# Altium footprint library MAXIM_Footprints.PcbLib: 8 footprints
Each footprint in its own frame and in the unit in brackets; x right, y up, seen from the top. Pads: shape width x height; smd on the part's side, far side on the other; paste and mask are expansions set on the pad; w line width, h text height; cw(c..) or ccw(c..) is an arc to the next point about the centre after c.
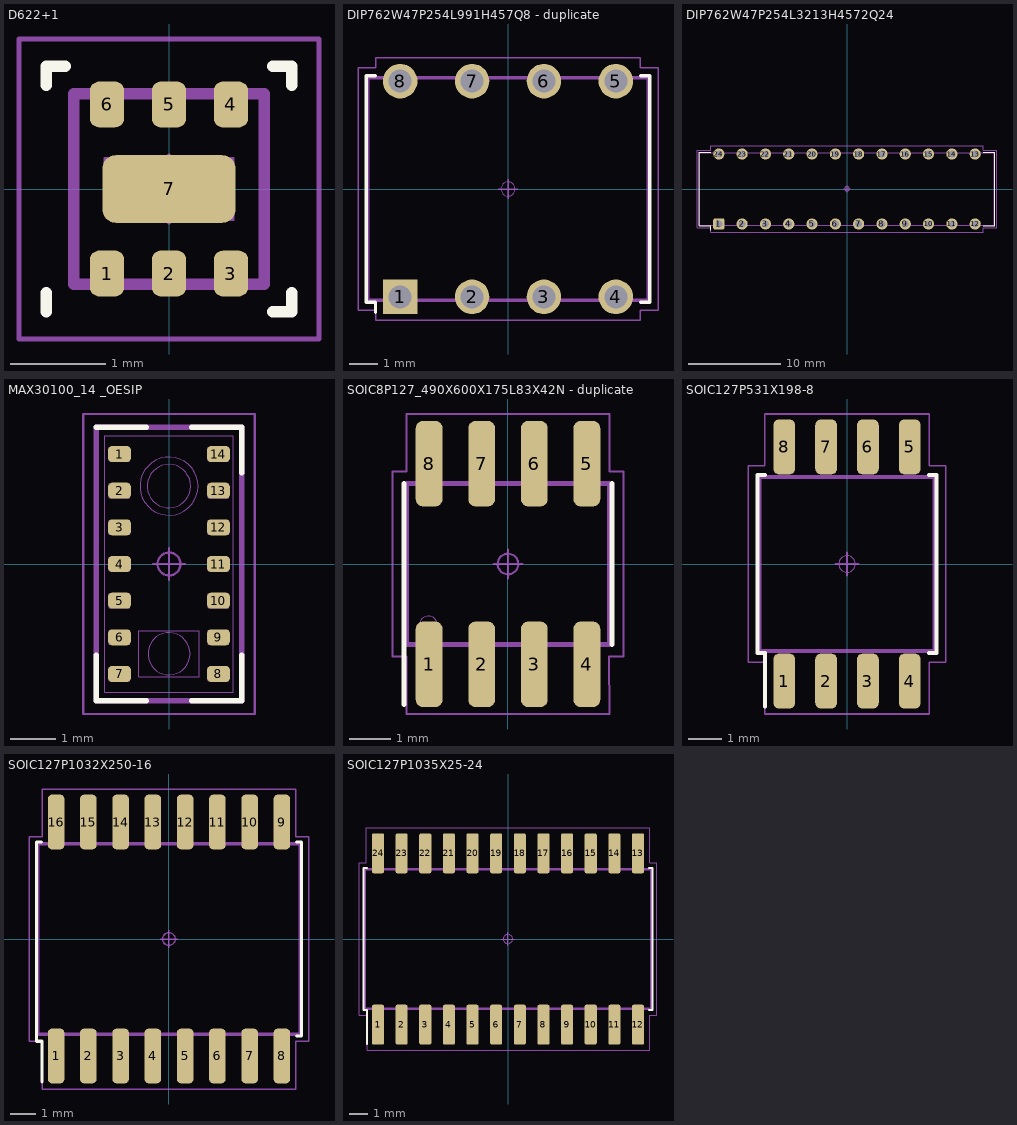
[diagram p0: the footprints below, top view; thin cyan lines are the x and y axes]

## D622+1 [mm]
height 0.6
pads (7):
  rrect51% 0.36x0.48 smd: 1(-0.65,-0.887) 2(0,-0.888) 3(0.65,-0.888) 4(0.65,0.887) 5(0,0.888) 6(-0.65,0.888)
  rrect39% 1.4x0.71 smd: 7(0,0)
Top Overlay:
  lines w0.12: -1.29,-1.29 -1.29,-1.09 ; -1.29,1.09 -1.29,1.29 -1.09,1.29 ; 1.09,-1.29 1.29,-1.29 1.29,-1.09 ; 1.09,1.29 1.29,1.29 1.29,1.09
Mechanical 11:
  lines w0.12: -1,-1 -1,1 1,1 1,-1 -1,-1
Mechanical 12:
  lines w0.025: -0.775,-1 -0.775,-0.825 cw(c-0.65,-0.825) -0.525,-0.825 -0.525,-1 ; -0.775,1 -0.775,0.825 ccw(c-0.65,0.825) -0.525,0.825 -0.525,1 ; -0.125,-1 -0.125,-0.825 cw(c0,-0.825) 0.125,-0.825 0.125,-1 ; -0.125,1 -0.125,0.825 ccw(c0,0.825) 0.125,0.825 0.125,1 ; 0.525,-1 0.525,-0.825 cw(c0.65,-0.825) 0.775,-0.825 0.775,-1 ; 0.525,1 0.525,0.825 ccw(c0.65,0.825) 0.775,0.825 0.775,1 ; -1,-1 1,-1 1,1 -1,1 -1,-1 ; -0.675,-0.125 -0.475,-0.325 0.675,-0.325 0.675,0.325 -0.675,0.325 -0.675,-0.1 -0.675,-0.125 ; 0.675,-0.1 0.675,-0.1
Mechanical 15:
  circle w0.05: c0,0 r0.25
  lines w0.05: -0.35,0 0.35,0 ; 0,-0.35 0,0.35 ; -1.575,-1.575 -1.575,1.575 1.575,1.575 1.575,-1.575 -1.575,-1.575
Mechanical 16:
  text ".Designator" at 0,0 h1.2
3D body "User Library-TDFN-6-OPTO.step": height 0.65, standoff 0, extent -1.01,-1.05 1.01,1.05

## DIP762W47P254L991H457Q8 - duplicate [mm] "DIP, 7.62 mm lead span, 2.54 mm pitch; 8 pin, 9.91 mm L X 7.87 mm W X 4.572 mm H body"
height 4.572
pads (8):
  rect 1.22x1.22 hole 0.81: 1(-3.81,-3.81)
  round 1.22 hole 0.81: 2(-1.27,-3.81) 3(1.27,-3.81) 4(3.81,-3.81) 5(3.81,3.81) 6(1.27,3.81) 7(-1.27,3.81) 8(-3.81,3.81)
Top Overlay:
  lines w0.12: -4.68,-4.36 -4.68,-3.995 -5.015,-3.995 -5.015,3.995 -4.68,3.995 ; 4.68,-3.995 5.015,-3.995 5.015,3.995 4.68,3.995
Mechanical 11:
  lines w0.12: -4.955,-3.935 4.955,-3.935 4.955,3.935 -4.955,3.935 -4.955,-3.935
Mechanical 12:
  lines w0.025: -4.955,-3.935 4.955,-3.935 4.955,3.935 -4.955,3.935 -4.955,-3.935
Mechanical 15:
  circle w0.025: c0,0 r0.25
  lines w0.05: -0.35,0 0.35,0 ; 0,-0.35 0,0.35 ; -5.3,-4.28 -5.3,4.28 -4.68,4.28 -4.68,4.645 4.68,4.645 4.68,4.28 5.3,4.28 5.3,-4.28 4.68,-4.28 4.68,-4.645 -4.68,-4.645 -4.68,-4.28 -5.3,-4.28
Mechanical 16:
  text "'.Designator'" at 0,0 h1.2
3D body "DIP762W47P254L991H457Q8.STEP": height 4.57, standoff 0.38, extent -4.955,-3.935 4.955,3.935

## DIP762W47P254L3213H4572Q24 [mm] "IPC-7251C PDIP24 for MAX7219"
height 4.572
pads (24):
  rrect30% 1.22x1.22 hole 0.762: 1(-13.97,-3.81)
  round 1.22 hole 0.762: 2(-11.43,-3.81) 3(-8.89,-3.81) 4(-6.35,-3.81) 5(-3.81,-3.81) 6(-1.27,-3.81) 7(1.27,-3.81) 8(3.81,-3.81) 9(6.35,-3.81) 10(8.89,-3.81) 11(11.43,-3.81) 12(13.97,-3.81) 13(13.97,3.81) 14(11.43,3.81) 15(8.89,3.81) 16(6.35,3.81) 17(3.81,3.81) 18(1.27,3.81) 19(-1.27,3.81) 20(-3.81,3.81) 21(-6.35,3.81) 22(-8.89,3.81) 23(-11.43,3.81) 24(-13.97,3.81)
Top Overlay:
  lines w0.12: -14.831,-4.471 -14.831,-3.995 -16.125,-3.995 -16.125,3.995 -14.831,3.995 ; 14.831,-3.995 16.125,-3.995 16.125,3.995 14.831,3.995
Mechanical 11:
  lines w0.12: -16.065,-3.935 -16.065,3.935 16.065,3.935 16.065,-3.935 -16.065,-3.935
Mechanical 12:
  lines w0.025: -16.065,-3.935 16.065,-3.935 16.065,3.935 -16.065,3.935 -16.065,-3.935
Mechanical 15:
  circle w0.05: c0,0.025 r0.25
  lines w0.05: -0.35,0.025 0.35,0.025 ; 0,-0.35 0,0.35 ; -16.35,-4.22 -14.856,-4.22 -14.856,-4.696 14.856,-4.696 14.856,-4.22 16.35,-4.22 16.35,4.22 14.856,4.22 14.856,4.696 -14.856,4.696 -14.856,4.22 -16.35,4.22 -16.35,-4.22
Mechanical 16:
  text "'.Designator'" at 0,0.025 h1.2
3D body "DIP794W47P254L3213H457Q24.STEP": height 4.57, standoff 0.38, extent -16.065,-3.91 16.065,3.96

## MAX30100_14 _OESIP [mm] "F142D5+2"
height 0.9
pads (14):
  rrect53% 0.5x0.35 smd: 1(-1.08,2.4) 2(-1.08,1.6) 3(-1.08,0.8) 4(-1.08,0) 5(-1.08,-0.8) 6(-1.08,-1.6) 7(-1.08,-2.4) 8(1.08,-2.4) 9(1.08,-1.6) 10(1.08,-0.8) 11(1.08,0) 12(1.08,0.8) 13(1.08,1.6) 14(1.08,2.4)
Top Overlay:
  lines w0.12: -1.59,-1.99 -1.59,-2.99 -0.5,-2.99 ; -1.59,2.99 -0.5,2.99 ; 0.5,-2.99 1.59,-2.99 1.59,-1.99 ; 0.5,2.99 1.59,2.99 1.59,1.99
Mechanical 11:
  circle w0.05: c0,0 r0.25
  lines w0.05: -0.35,0 0.35,0 ; 0,-0.35 0,0.35
  lines w0.12: -1.59,-2.99 -1.59,2.99 1.59,2.99 1.59,-2.99 -1.59,-2.99
Mechanical 12:
  circle w0.025: c0,1.7 r0.475
  circle w0.025: c0,1.7 r0.635
  circle w0.025: c0,-1.96 r0.46
  lines w0.025: -1.305,-2.252 -1.305,-2.55 -0.855,-2.55 -0.855,-2.25 -1.305,-2.25 ; -1.305,-1.452 -1.305,-1.75 -0.855,-1.75 -0.855,-1.45 -1.305,-1.45 ; -1.305,-0.653 -1.305,-0.95 -0.855,-0.95 -0.855,-0.65 -1.305,-0.65 ; -1.305,0.148 -1.305,-0.15 -0.855,-0.15 -0.855,0.15 -1.305,0.15 ; -1.305,0.948 -1.305,0.65 -0.855,0.65 -0.855,0.95 -1.305,0.95 ; -1.305,1.747 -1.305,1.45 -0.855,1.45 -0.855,1.75 -1.305,1.75 ; -1.305,2.548 -1.305,2.25 -0.855,2.25 -0.855,2.55 -1.305,2.55 ; 1.305,-2.55 0.855,-2.55 0.855,-2.25 1.305,-2.25 1.305,-2.547 ; 1.305,-1.75 0.855,-1.75 0.855,-1.45 1.305,-1.45 1.305,-1.747 ; 1.305,-0.95 0.855,-0.95 0.855,-0.65 1.305,-0.65 1.305,-0.947 ; 1.305,-0.15 0.855,-0.15 0.855,0.15 1.305,0.15 1.305,-0.148 ; 1.305,0.65 0.855,0.65 0.855,0.95 1.305,0.95 1.305,0.653 ; 1.305,1.45 0.855,1.45 0.855,1.75 1.305,1.75 1.305,1.453 ; 1.305,2.25 0.855,2.25 0.855,2.55 1.305,2.55 1.305,2.252 ; -1.4,-2.8 -1.4,2.8 1.4,2.8 1.4,-2.8 -1.4,-2.8 ; -0.66,-2.46 -0.66,-1.46 0.66,-1.46 0.66,-2.46 -0.66,-2.46
Mechanical 15:
  lines w0.05: -1.875,-3.275 -1.875,3.275 1.875,3.275 1.875,-3.275 -1.875,-3.275
Mechanical 16:
  text ".Designator" at 0,0 h1.2

## SOIC8P127_490X600X175L83X42N - duplicate [mm] "Small Outline IC (SOIC), 1.27 mm pitch; 8 pin, 4.90 mm L X 3.90 mm W X 1.75 mm H body"
height 1.75
pads (8):
  rrect53% 0.65x2.07 smd: 1(-1.905,-2.425) 2(-0.635,-2.425) 3(0.635,-2.425) 4(1.905,-2.425) 5(1.905,2.425) 6(0.635,2.425) 7(-0.635,2.425) 8(-1.905,2.425)
Top Overlay:
  lines w0.12: -2.51,-3.4 -2.51,1.95 ; 2.51,-1.95 2.51,1.95
Mechanical 11:
  lines w0.12: -2.45,-1.95 -2.45,1.95 2.45,1.95 2.45,-1.95 -2.45,-1.95
Mechanical 12:
  circle w0.025: c-1.925,-1.475 r0.215
  lines w0.025: -2.45,-1.95 2.45,-1.95 2.45,1.95 -2.45,1.95 -2.45,-1.95 ; -2.115,-3 -1.695,-3 -1.695,-2.16 -2.115,-2.16 -2.115,-3 ; -2.115,2.16 -2.115,3 -1.695,3 -1.695,2.16 -2.115,2.16 ; -0.845,-3 -0.425,-3 -0.425,-2.16 -0.845,-2.16 -0.845,-3 ; -0.845,2.16 -0.845,3 -0.425,3 -0.425,2.16 -0.845,2.16 ; 0.425,-3 0.845,-3 0.845,-2.16 0.425,-2.16 0.425,-3 ; 0.425,2.16 0.425,3 0.845,3 0.845,2.16 0.425,2.16 ; 1.695,-3 2.115,-3 2.115,-2.16 1.695,-2.16 1.695,-3 ; 1.695,2.16 1.695,3 2.115,3 2.115,2.16 1.695,2.16
Mechanical 15:
  lines w0.05: -0.35,0 0.35,0 ; 0,-0.35 0,0.35 ; 0.25,-0.01 cw(c0,0) 0.25,0 ; -2.795,-2.235 -2.455,-2.235 -2.455,-3.625 2.455,-3.625 2.445,-2.235 2.795,-2.235 2.795,2.235 2.455,2.235 2.455,3.625 -2.455,3.625 -2.455,2.235 -2.795,2.235 -2.795,-2.235
Mechanical 16:
  text ".Designator" at 0,0 h1.2
3D body "SOIC8P127_490X600X175L83X42.STEP": height 1.75, standoff 0, extent -2.45,-3 2.45,3

## SOIC127P531X198-8 [mm] "IPC-7351C Small Outline IC (SOIC), 1.27 mm pitch; 8 pin, 5.31 mm L X 5.285 mm W X 2.13 mm H body"
height 1.98
pads (8):
  rrect52% 0.66x1.67 smd: 1(-1.905,-3.555) 2(-0.635,-3.555) 3(0.635,-3.555) 4(1.905,-3.555) 5(1.905,3.556) 6(0.635,3.556) 7(-0.635,3.556) 8(-1.905,3.556)
Top Overlay:
  lines w0.12: -2.495,-4.33 -2.495,-2.702 -2.715,-2.702 -2.715,2.702 -2.495,2.702 ; 2.495,-2.702 2.715,-2.702 2.715,2.702 2.495,2.702
Mechanical 11:
  lines w0.12: -2.655,-2.642 -2.655,2.643 2.655,2.643 2.655,-2.642 -2.655,-2.642
Mechanical 12:
  lines w0.025: -2.655,-2.642 2.655,-2.642 2.655,2.643 -2.655,2.643 -2.655,-2.642 ; -2.115,-3.934 -1.695,-3.934 -1.695,-3.315 -2.115,-3.315 -2.115,-3.935 ; -2.115,3.315 -1.695,3.315 -1.695,3.935 -2.115,3.935 -2.115,3.315 ; -0.845,-3.934 -0.425,-3.934 -0.425,-3.315 -0.845,-3.315 -0.845,-3.934 ; -0.845,3.315 -0.425,3.315 -0.425,3.935 -0.845,3.935 -0.845,3.315 ; 0.425,-3.934 0.845,-3.934 0.845,-3.315 0.425,-3.315 0.425,-3.934 ; 0.425,3.315 0.845,3.315 0.845,3.935 0.425,3.935 0.425,3.315 ; 1.695,-3.934 2.115,-3.934 2.115,-3.315 1.695,-3.315 1.695,-3.934 ; 1.695,3.315 2.115,3.315 2.115,3.935 1.695,3.935 1.695,3.315
Mechanical 15:
  circle w0.025: c0,0 r0.25
  lines w0.05: -0.35,0 0.35,0 ; 0,-0.35 0,0.35 ; -3,-2.987 -2.495,-2.987 -2.495,-4.555 2.495,-4.555 2.495,-2.987 3,-2.987 3,2.987 2.495,2.987 2.495,4.555 -2.495,4.555 -2.495,2.987 -3,2.987 -3,-2.987
Mechanical 16:
  text "'.Designator'" at 0,0 h1.2
3D body "SOIC8P127_531X787X213L62X42.STEP": height 2.13, standoff 0, extent -2.655,-3.935 2.655,3.935

## SOIC127P1032X250-16 [mm] "IPC-7351C compliant Small Outline IC (SOIC), 1.27 mm pitch; 16 pin, 10.30 mm L X 7.50 mm W X 2.65 mm H body"
height 2.5
pads (16):
  rrect49% 0.65x2.15 smd: 1(-4.445,-4.605) 2(-3.175,-4.605) 3(-1.905,-4.605) 4(-0.635,-4.605) 5(0.635,-4.605) 6(1.905,-4.605) 7(3.175,-4.605) 8(4.445,-4.605) 9(4.445,4.605) 10(3.175,4.605) 11(1.905,4.605) 12(0.635,4.605) 13(-0.635,4.605) 14(-1.905,4.605) 15(-3.175,4.605) 16(-4.445,4.605)
Top Overlay:
  lines w0.12: -5.03,3.81 -5.21,3.81 -5.21,-4.025 -5.005,-4.025 -4.995,-4.035 -4.995,-5.62 ; 5.03,-3.81 5.21,-3.81 5.21,3.81 5.03,3.81
Mechanical 11:
  lines w0.12: -5.15,-3.75 5.15,-3.75 5.15,3.75 -5.15,3.75 -5.15,-3.75
Mechanical 12:
  lines w0.025: -5.15,-3.75 5.15,-3.75 5.15,3.75 -5.15,3.75 -5.15,-3.75 ; -4.655,-5.162 -4.655,-4.327 -4.235,-4.327 -4.235,-5.162 -4.655,-5.162 ; -4.655,4.327 -4.655,5.162 -4.235,5.162 -4.235,4.327 -4.655,4.327 ; -3.385,-5.162 -3.385,-4.327 -2.965,-4.327 -2.965,-5.162 -3.385,-5.162 ; -3.385,4.327 -3.385,5.162 -2.965,5.162 -2.965,4.327 -3.385,4.327 ; -2.115,-5.162 -2.115,-4.327 -1.695,-4.327 -1.695,-5.162 -2.115,-5.162 ; -2.115,4.327 -2.115,5.162 -1.695,5.162 -1.695,4.327 -2.115,4.327 ; -0.845,-5.162 -0.845,-4.327 -0.425,-4.327 -0.425,-5.162 -0.845,-5.162 ; -0.845,4.327 -0.845,5.162 -0.425,5.162 -0.425,4.327 -0.845,4.327 ; 0.425,-5.162 0.425,-4.327 0.845,-4.327 0.845,-5.162 0.425,-5.162 ; 0.425,4.327 0.425,5.162 0.845,5.162 0.845,4.327 0.425,4.327 ; 1.695,-5.162 1.695,-4.327 2.115,-4.327 2.115,-5.162 1.695,-5.162 ; 1.695,4.327 1.695,5.162 2.115,5.162 2.115,4.327 1.695,4.327 ; 2.965,-5.162 2.965,-4.327 3.385,-4.327 3.385,-5.162 2.965,-5.162 ; 2.965,4.327 2.965,5.162 3.385,5.162 3.385,4.327 2.965,4.327 ; 4.235,-5.162 4.235,-4.327 4.655,-4.327 4.655,-5.162 4.235,-5.162 ; 4.235,4.327 4.235,5.162 4.655,5.162 4.655,4.327 4.235,4.327
Mechanical 15:
  circle w0.05: c0,0 r0.25
  lines w0.05: -0.35,0 0.35,0 ; 0,-0.35 0,0.35 ; -5.495,-4.035 -5.495,4.035 -4.995,4.035 -4.995,5.905 4.995,5.905 4.995,4.035 5.495,4.035 5.495,-4.035 4.995,-4.035 4.995,-5.905 -4.995,-5.905 -4.995,-4.035 -5.495,-4.035
Mechanical 16:
  text "'.Designator'" at 0,0 h1.2
3D body "SOIC16P127_1030X1032X265L83X42.STEP": height 2.65, standoff 0, extent -5.15,-5.162 5.15,5.163

## SOIC127P1035X25-24 [mm] "SOIC IPC-7351C MAX7219/7221_AD"
height 2.5
pads (24):
  rrect30% 0.65x2.15 smd: 1(-6.985,-4.605) 2(-5.715,-4.605) 3(-4.445,-4.605) 4(-3.175,-4.605) 5(-1.905,-4.605) 6(-0.635,-4.605) 7(0.635,-4.605) 8(1.905,-4.605) 9(3.175,-4.605) 10(4.445,-4.605) 11(5.715,-4.605) 12(6.985,-4.605) 13(6.985,4.605) 14(5.715,4.605) 15(4.445,4.605) 16(3.175,4.605) 17(1.905,4.605) 18(0.635,4.605) 19(-0.635,4.605) 20(-1.905,4.605) 21(-3.175,4.605) 22(-4.445,4.605) 23(-5.715,4.605) 24(-6.985,4.605)
Top Overlay:
  lines w0.12: -7.57,-5.625 -7.57,-3.81 -7.76,-3.81 -7.76,3.81 -7.57,3.81 ; 7.57,-3.81 7.76,-3.81 7.76,3.81 7.57,3.81
Mechanical 11:
  lines w0.12: -7.7,-3.75 7.7,-3.75 7.7,3.75 -7.7,3.75 -7.7,-3.75
Mechanical 12:
  lines w0.025: -7.7,-3.75 -7.7,3.75 7.7,3.75 7.7,-3.75 -7.7,-3.75 ; -7.195,-5.162 -7.195,-4.327 -6.775,-4.327 -6.775,-5.162 -7.195,-5.162 ; -7.195,4.327 -7.195,5.162 -6.775,5.162 -6.775,4.327 -7.195,4.327 ; -5.925,-5.162 -5.925,-4.327 -5.505,-4.327 -5.505,-5.162 -5.925,-5.162 ; -5.925,4.327 -5.925,5.162 -5.505,5.162 -5.505,4.327 -5.925,4.327 ; -4.655,-5.162 -4.655,-4.327 -4.235,-4.327 -4.235,-5.162 -4.655,-5.162 ; -4.655,4.327 -4.655,5.162 -4.235,5.162 -4.235,4.327 -4.655,4.327 ; -3.385,-5.162 -3.385,-4.327 -2.965,-4.327 -2.965,-5.162 -3.385,-5.162 ; -3.385,4.327 -3.385,5.162 -2.965,5.162 -2.965,4.327 -3.385,4.327 ; -2.115,-5.162 -2.115,-4.327 -1.695,-4.327 -1.695,-5.162 -2.115,-5.162 ; -2.115,4.327 -2.115,5.162 -1.695,5.162 -1.695,4.327 -2.115,4.327 ; -0.845,-5.162 -0.845,-4.327 -0.425,-4.327 -0.425,-5.162 -0.845,-5.162 ; -0.845,4.327 -0.845,5.162 -0.425,5.162 -0.425,4.327 -0.845,4.327 ; 0.425,-5.162 0.425,-4.327 0.845,-4.327 0.845,-5.162 0.425,-5.162 ; 0.425,4.327 0.425,5.162 0.845,5.162 0.845,4.327 0.425,4.327 ; 1.695,-5.162 1.695,-4.327 2.115,-4.327 2.115,-5.162 1.695,-5.162 ; 1.695,4.327 1.695,5.162 2.115,5.162 2.115,4.327 1.695,4.327 ; 2.965,-5.162 2.965,-4.327 3.385,-4.327 3.385,-5.162 2.965,-5.162 ; 2.965,4.327 2.965,5.162 3.385,5.162 3.385,4.327 2.965,4.327 ; 4.235,-5.162 4.235,-4.327 4.655,-4.327 4.655,-5.162 4.235,-5.162 ; 4.235,4.327 4.235,5.162 4.655,5.162 4.655,4.327 4.235,4.327 ; 5.505,-5.162 5.505,-4.327 5.925,-4.327 5.925,-5.162 5.505,-5.162 ; 5.505,4.327 5.505,5.162 5.925,5.162 5.925,4.327 5.505,4.327 ; 6.775,-5.162 6.775,-4.327 7.195,-4.327 7.195,-5.162 6.775,-5.162 ; 6.775,4.327 6.775,5.162 7.195,5.162 7.195,4.327 6.775,4.327
Mechanical 15:
  circle w0.05: c0,0 r0.25
  lines w0.05: -0.35,0 0.35,0 ; 0,-0.35 0,0.35 ; -7.985,-4.095 -7.985,4.095 -7.625,4.095 -7.625,5.982 7.625,5.982 7.625,4.095 7.985,4.095 7.985,-4.095 7.625,-4.095 7.625,-5.982 -7.57,-5.982 -7.57,-4.095 -7.985,-4.095
Mechanical 16:
  text "'.Designator'" at 0,0 h1.2
3D body "SOIC24P127_1540X1032X265L83X42.STEP": height 2.65, standoff 0, extent -7.7,-5.162 7.7,5.163